# EAGLE library part 8PIN_SMT_CONNECTOR (library MINI_SMT_8_PIN_CONNECTOR)
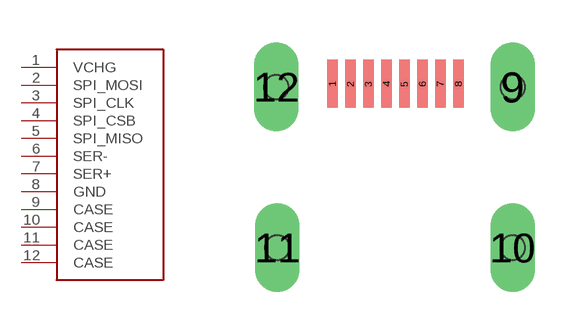
[diagram p0: symbol with the pads of 8PIN_SMT_CONNECTOR; footprint 8PIN_SMT_CONNECTOR]

Designator prefix -

## 8PIN_SMT_CONNECTOR  [8PIN_SMT_CONNECTOR]
1  VCHG
2  SPI_MOSI
3  SPI_CLK
4  SPI_CSB
5  SPI_MISO
6  SER-
7  SER+
8  GND
9  CASE
10  CASE
11  CASE
12  CASE

## Footprint 8PIN_SMT_CONNECTOR (pad centres in mm)
smd 0.26 x 1.2: 1 -1.32,2.83; 2 -0.87,2.83; 3 -0.42,2.83; 4 0.03,2.83; 5 0.48,2.83; 6 0.93,2.83; 7 1.38,2.83; 8 1.83,2.83
drill 0.6 long: 9 3.18,2.755; 10 3.18,-1.27; 11 -2.695,-1.27; 12 -2.72,2.755
hole 0.6 at -2.72,2.755
hole 0.6 at -2.695,-1.27
hole 0.6 at 3.18,-1.27
hole 0.6 at 3.18,2.755